# EAGLE library part 1-1734592-0 (library Jack-connectors)
10 way, 0.5 mm, FPC connector, SMT, Bottom Contact
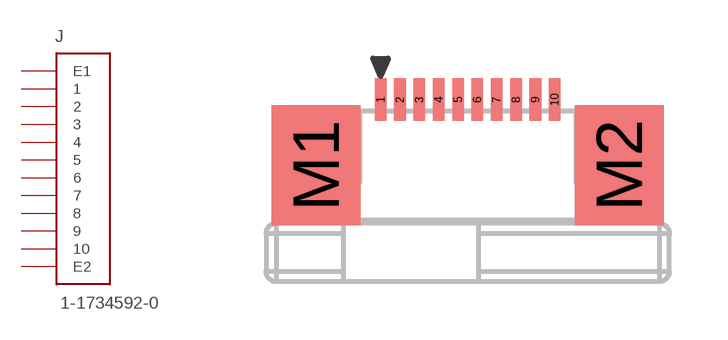
[diagram p6: symbol with the pads of 1-1734592-0; footprint 1-1734592-0]

Designator prefix J

## 1-1734592-0 (DESCRIPTION: FPC connector, 10 way, 0.5 mm, SMT, Bottom Contact; PACK: 1-1734592-0)  [1-1734592-0]
1  1  pas
2  2  pas
3  3  pas
4  4  pas
5  5  pas
6  6  pas
7  7  pas
8  8  pas
9  9  pas
10  10  pas
M1  E1  pas
M2  E2  pas

## Footprint 1-1734592-0 (pad centres in mm)
10 way, 0.5 mm, FPC Connector, SMT, Bottom Contacts AMP manufacturer
smd 0.3 x 1.1: 1 -2.25,2.15; 2 -1.75,2.15; 3 -1.25,2.15; 4 -0.75,2.15; 5 -0.25,2.15; 6 0.25,2.15; 7 0.75,2.15; 8 1.25,2.15; 9 1.75,2.15; 10 2.25,2.15
smd 2.3 x 3.1: M1 -3.92,0.45; M2 3.92,0.45